# EAGLE library part MSP430F43*PN (library msp430)
Mixed Signal Microcontroller 12bit ADC, 128 LCD segments
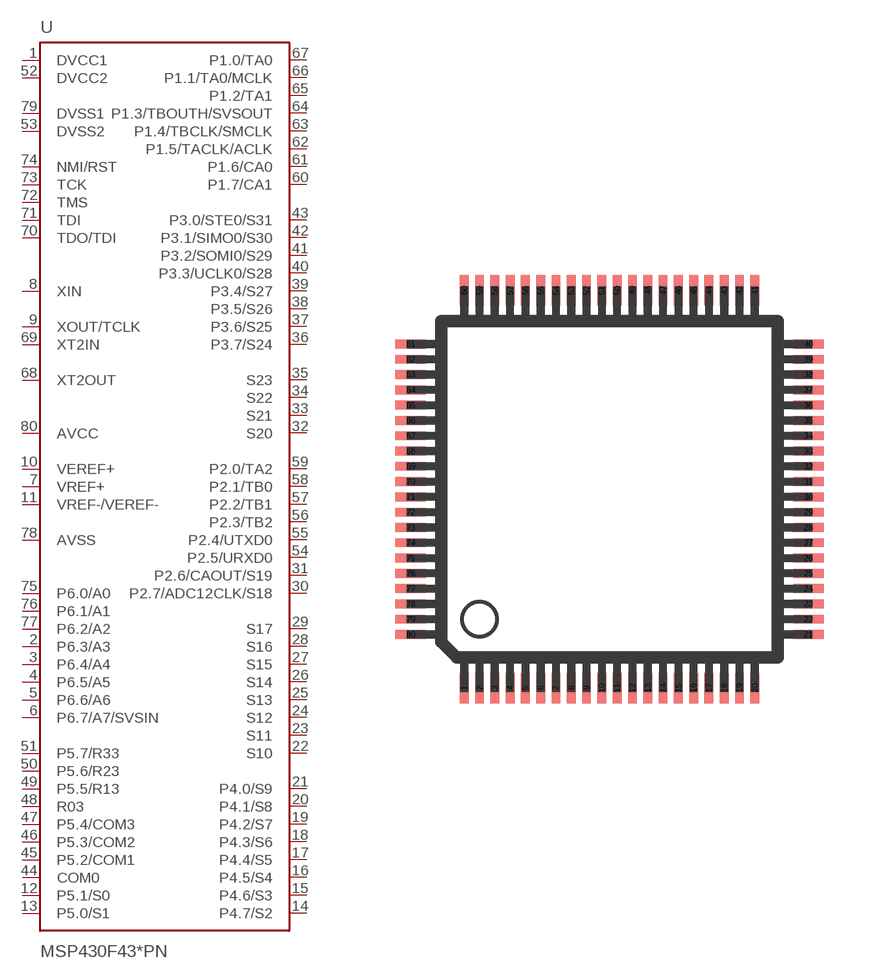
[diagram p8: symbol with the pads of S-PQFP-G80(PN); footprint S-PQFP-G80(PN)]

Designator prefix U

## MSP430F435IPN, MSP430F436IPN, MSP430F437IPN  [S-PQFP-G80(PN)]
1  DVCC1  pwr
2  P6.3/A3
3  P6.4/A4
4  P6.5/A5
5  P6.6/A6
6  P6.7/A7/SVSIN
7  VREF+  pas
8  XIN  pas
9  XOUT/TCLK  pas
10  VEREF+  pas
11  VREF-/VEREF-  pas
12  P5.1/S0
13  P5.0/S1
14  P4.7/S2
15  P4.6/S3
16  P4.5/S4
17  P4.4/S5
18  P4.3/S6
19  P4.2/S7
20  P4.1/S8
21  P4.0/S9
22  S10  out
23  S11  out
24  S12  out
25  S13  out
26  S14  out
27  S15  out
28  S16  out
29  S17  out
30  P2.7/ADC12CLK/S18
31  P2.6/CAOUT/S19
32  S20  out
33  S21  out
34  S22  out
35  S23  out
36  P3.7/S24
37  P3.6/S25
38  P3.5/S26
39  P3.4/S27
40  P3.3/UCLK0/S28
41  P3.2/SOMI0/S29
42  P3.1/SIMO0/S30
43  P3.0/STE0/S31
44  COM0  out
45  P5.2/COM1
46  P5.3/COM2
47  P5.4/COM3
48  R03  in
49  P5.5/R13
50  P5.6/R23
51  P5.7/R33
52  DVCC2  pwr
53  DVSS2  pwr
54  P2.5/URXD0
55  P2.4/UTXD0
56  P2.3/TB2
57  P2.2/TB1
58  P2.1/TB0
59  P2.0/TA2
60  P1.7/CA1
61  P1.6/CA0
62  P1.5/TACLK/ACLK
63  P1.4/TBCLK/SMCLK
64  P1.3/TBOUTH/SVSOUT
65  P1.2/TA1
66  P1.1/TA0/MCLK
67  P1.0/TA0
68  XT2OUT  pas
69  XT2IN  pas
70  TDO/TDI
71  TDI  in
72  TMS  in
73  TCK  in
74  NMI/RST  in
75  P6.0/A0
76  P6.1/A1
77  P6.2/A2
78  AVSS  pwr
79  DVSS1  pwr
80  AVCC  pwr

## Footprint S-PQFP-G80(PN) (pad centres in mm)
smd 0.29 x 1: 1 -4.75,-6.5; 2 -4.25,-6.5; 3 -3.75,-6.5; 4 -3.25,-6.5; 5 -2.75,-6.5; 6 -2.25,-6.5; 7 -1.75,-6.5; 8 -1.25,-6.5; 9 -0.75,-6.5; 10 -0.25,-6.5; 11 0.25,-6.5; 12 0.75,-6.5; 13 1.25,-6.5; 14 1.75,-6.5; 15 2.25,-6.5; 16 2.75,-6.5; 17 3.25,-6.5; 18 3.75,-6.5; 19 4.25,-6.5; 20 4.75,-6.5; 41 4.75,6.5; 42 4.25,6.5; 43 3.75,6.5; 44 3.25,6.5; 45 2.75,6.5; 46 2.25,6.5; 47 1.75,6.5; 48 1.25,6.5; 49 0.75,6.5; 50 0.25,6.5; 51 -0.25,6.5; 52 -0.75,6.5; 53 -1.25,6.5; 54 -1.75,6.5; 55 -2.25,6.5; 56 -2.75,6.5; 57 -3.25,6.5; 58 -3.75,6.5; 59 -4.25,6.5; 60 -4.75,6.5
smd 1 x 0.29: 21 6.5,-4.75; 22 6.5,-4.25; 23 6.5,-3.75; 24 6.5,-3.25; 25 6.5,-2.75; 26 6.5,-2.25; 27 6.5,-1.75; 28 6.5,-1.25; 29 6.5,-0.75; 30 6.5,-0.25; 31 6.5,0.25; 32 6.5,0.75; 33 6.5,1.25; 34 6.5,1.75; 35 6.5,2.25; 36 6.5,2.75; 37 6.5,3.25; 38 6.5,3.75; 39 6.5,4.25; 40 6.5,4.75; 61 -6.5,4.75; 62 -6.5,4.25; 63 -6.5,3.75; 64 -6.5,3.25; 65 -6.5,2.75; 66 -6.5,2.25; 67 -6.5,1.75; 68 -6.5,1.25; 69 -6.5,0.75; 70 -6.5,0.25; 71 -6.5,-0.25; 72 -6.5,-0.75; 73 -6.5,-1.25; 74 -6.5,-1.75; 75 -6.5,-2.25; 76 -6.5,-2.75; 77 -6.5,-3.25; 78 -6.5,-3.75; 79 -6.5,-4.25; 80 -6.5,-4.75